# Altium schematic symbol library MAX14871_Project.SchLib: 38 symbols (part 1 of 2)
Pins are listed as number, name and electrical type; pins without a type are passive.

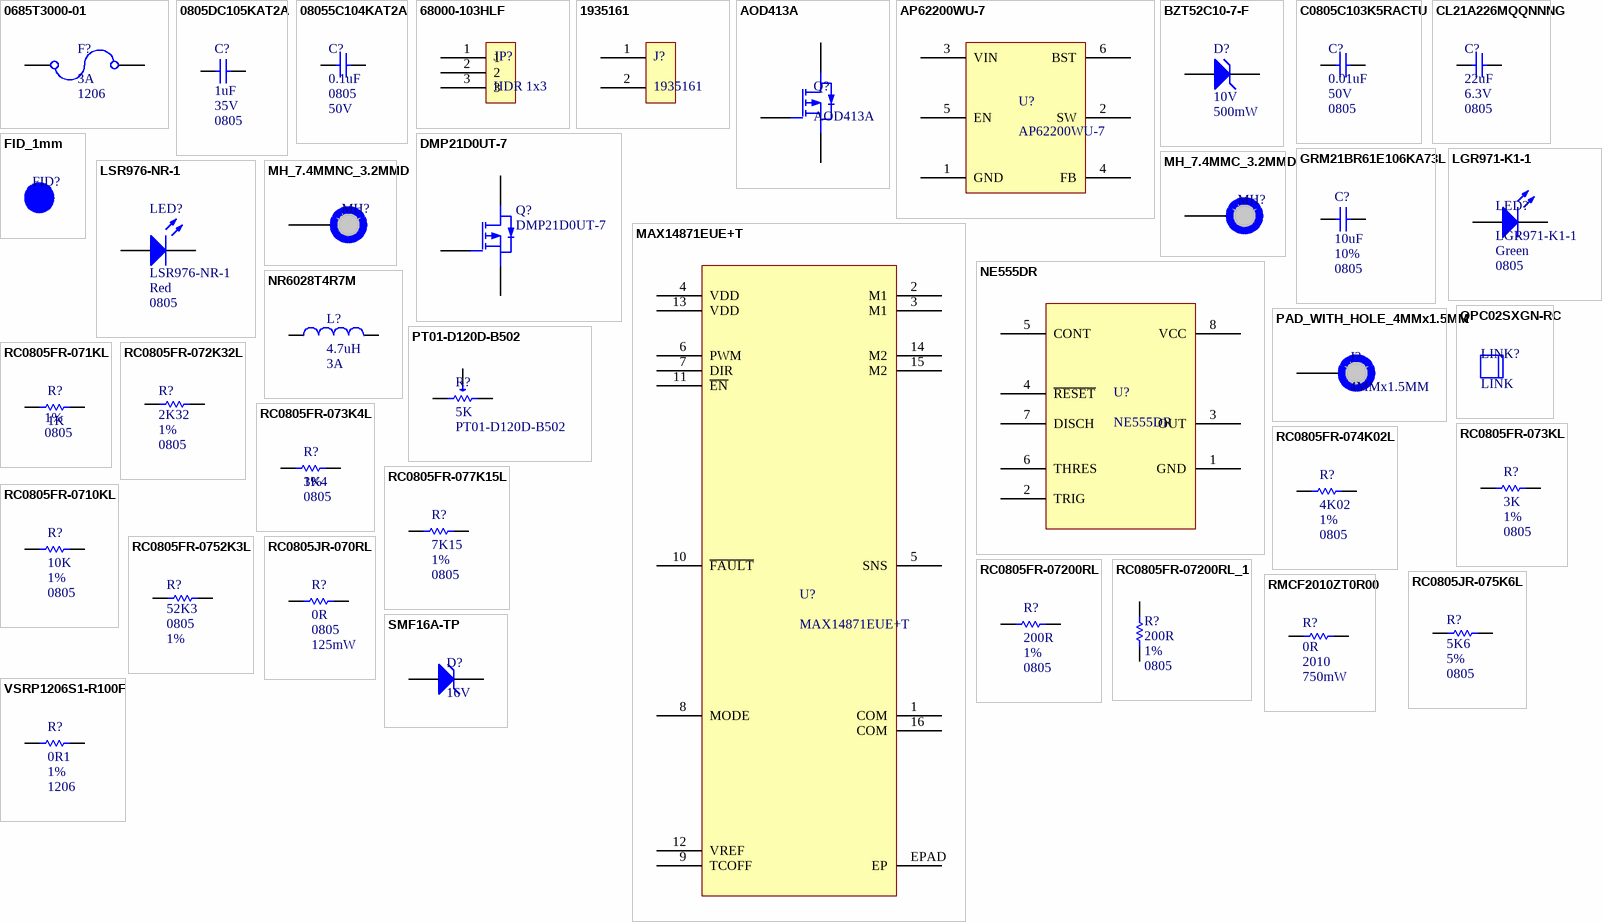
[diagram p0: symbols 0685T3000-01 to VSRP1206S1-R100F]

## 0685T3000-01
designator F?, comment 3A  Case/Package: 1206
Fuse Chip 3A 63V Slow Blow 2-Pin T/R; Manufacturer: Bel; Manufacturer Part Number: 0685T3000-01; Fuse Type: Board Mount (Cartridge Style Excluded); DC Cold Resistance: 54mR; Approvals: CE,cURus; Supplier 1: Digi-Key; RoHS: Yes; Category: Fuses; Stock 1: 409603; Pricing 1: 1=0.30000, 5=0.29600, 10=0.28200, 50=0.25180, 100=0.23450, 250=0.20848, 500=0.17372, 1000=0.16503 (USD); Mount: Surface Mount; Case Code (Imperial): 1206; Case Code (Metric): 3216; Min Operating Temperature: -55°C; Max Operating Temperature: 125°C; Packaging: Tape and Reel; Current Rating: 3A; Voltage Rating (AC): 63V; Voltage Rating (DC): 63V; RoHS Compliant: Yes; ComponentLink1URL: https://belfuse.com/resources/datasheets/circuitprotection/ds-cp-c1t-series.pdf?src-supplier=Digi-Key; ComponentLink1Description: https://belfuse.com/resources/datasheets/circuitprotection/ds-cp-c1t-series.pdf?src-supplier=Digi-Key; Supplier Part Number 1: 507-1896-1-ND
footprint FUSE1206
pins: 1, 2

## 0805DC105KAT2A
designator C?, comment 1uF  Rating: 35V  Case/Package: 0805
Cap Cer 1UF 35V X7R 0805; Manufacturer: Kyocera AVX; Manufacturer Part Number: 0805DC105KAT2A; Supplier 1: Digi-Key; RoHS: Yes; Category: Ceramic Capacitors; Stock 1: 25687; Pricing 1: 1=0.22000, 10=0.15100, 50=0.09040, 100=0.07640, 500=0.05226, 1000=0.04623 (USD); Packaging: Tape and Reel; ComponentLink1URL: http://www.mouser.com/ds/2/40/X7RDielectric-777024.pdf?src-supplier=Mouser; ComponentLink1Description: http://www.mouser.com/ds/2/40/X7RDielectric-777024.pdf?src-supplier=Mouser; Supplier Part Number 1: 478-0805DC105KAT2ACT-ND
footprint C0805
pins: 1, 2

## 08055C104KAT2A
designator C?, comment 0.1uF  Case Code (Imperial): 0805  Voltage Rating (DC): 50V
CAP CER 0.1UF X7R 50V 0805  +/-10%; 50WVDC; SMD; 2.5% Df; 0.037IN. ,; Manufacturer: Kyocera AVX; Manufacturer Part Number: 08055C104KAT2A; Dielectric Material: Ceramic; Capacitance: 100nF; Tolerance: 10%; Insulation Resistance: 100GR; Supplier 1: Digi-Key; RoHS: Yes; Category: Ceramic Capacitors; Stock 1: 12454485; Pricing 1: 1=0.10000, 10=0.06700, 50=0.03640, 100=0.02970, 500=0.02120, 1000=0.01666 (USD); Mount: Surface Mount,PCB; Case/Package: 0805; Number of Pins: 2; Case Code (Metric): 2012; Weight: 0.001411oz; Min Operating Temperature: -55°C; Max Operating Temperature: 125°C; Dielectric: X7R; Packaging: Cut Tape; Voltage Rating: 50V; Package Quantity: 4000; Termination: Standard; Voltage: 50V; Series: MLCC X7R; Dissipation Factor: 2.5%; Length: 2mm; Width: 1.2mm; Height: 0.5mm; Depth: 1.25mm; Thickness: 0.037inch; Radiation Hardening: No; Reach SVHC Compliant: Yes; Lead Free: Lead Free; RoHS Compliant: Yes; ComponentLink1URL: https://datasheet.ciiva.com/19475/2009691-19475858.pdf?src-supplier=Jameco; ComponentLink1Description: https://datasheet.ciiva.com/19475/2009691-19475858.pdf?src-supplier=Jameco; ComponentLink2URL: https://datasheet.ciiva.com/11786/0900766b802d4698-11786116.pdf?src-supplier=RSComponents; ComponentLink2Description: https://datasheet.ciiva.com/11786/0900766b802d4698-11786116.pdf?src-supplier=RSComponents; ComponentLink3URL: https://datasheet.ciiva.com/2988/cx7r-2988014.pdf?src-supplier=Avnet; ComponentLink3Description: https://datasheet.ciiva.com/2988/cx7r-2988014.pdf?src-supplier=Avnet; ComponentLink4URL: https://datasheet.ciiva.com/16199/cx7r-16199014.pdf?src-supplier=Future+Electronics; ComponentLink4Description: https://datasheet.ciiva.com/16199/cx7r-16199014.pdf?src-supplier=Future+Electronics; ComponentLink5URL: https://datasheet.ciiva.com/11504/cx7r-11504044.pdf?src-supplier=Avnet; ComponentLink5Description: https://datasheet.ciiva.com/11504/cx7r-11504044.pdf?src-supplier=Avnet; ComponentLink6URL: https://datasheet.ciiva.com/150/cx7r-150258.pdf?src-supplier=Digi-Key; ComponentLink6Description: https://datasheet.ciiva.com/150/cx7r-150258.pdf?src-supplier=Digi-Key; ComponentLink7URL: https://datasheet.ciiva.com/150/cx7r-150257.pdf?src-supplier=Digi-Key; ComponentLink7Description: https://datasheet.ciiva.com/150/cx7r-150257.pdf?src-supplier=Digi-Key; ComponentLink8URL: https://datasheet.ciiva.com/150/cx7r-150259.pdf?src-supplier=Digi-Key; ComponentLink8Description: https://datasheet.ciiva.com/150/cx7r-150259.pdf?src-supplier=Digi-Key; ComponentLink9URL: https://datasheet.ciiva.com/7812/cx7r-7812079.pdf?src-supplier=Element14; ComponentLink9Description: https://datasheet.ciiva.com/7812/cx7r-7812079.pdf?src-supplier=Element14; ComponentLink10URL: https://datasheet.ciiva.com/5416/cx7r-5416959.pdf?src-supplier=Mouser; ComponentLink10Description: https://datasheet.ciiva.com/5416/cx7r-5416959.pdf?src-supplier=Mouser; Supplier Part Number 1: 478-1395-1-ND
footprint C0805
pins: 1, 2

## 68000-103HLF
designator JP?, comment HDR 1x3
CONN HEADER VERT 3POS 2.54MM
footprint HDR_1x3_2.54mm
pins: 1, 2, 3

## 1935161
designator J?
Conn PC Terminal Block 2 POS 5mm Solder ST Thru-Hole 17.5A; Manufacturer: Phoenix Contact; Number of Contacts: 2; Max Current Rating: 16A; Max Supply Voltage: 250V; Number of Levels: 1; Current: 18A; Voltage: 300V; Voltage Rating (DC): 320V; Connector Type: Screw; Wire/Cable Gauge: 26AWG; Wire Gauge (Min): 12AWG; Approvals: UL; Supplier 1: Digi-Key; Manufacturer Part Number: 1935161; RoHS: Yes; Category: Terminal Blocks; Stock 1: 238571; Pricing 1: 1=0.54000, 10=0.47200, 50=0.45100, 100=0.43870, 250=0.41000, 500=0.37720, 1000=0.36550 (USD); Mount: Through Hole; Number of Pins: 2; Contact Material: Copper,Tin; Housing Material: Polyamide; Color: Green; Weight: 0.067021oz; Material: Nylon; Housing Color: Green; Insulation Material: Nylon; Current Rating: 17.5A; Number of Rows: 1; Termination: Solder; Orientation: Straight; Voltage Rating: 250V; Package Quantity: 250; Packaging: Bulk; Number of Poles: 2; Number of Positions: 2; Number of Positions Per Level: 2; Number of Circuits: 2; Series: COMBICON PT; Number of Ways: 2; Length: 9mm; Width: 14.9mm; Height: 11.3mm; Wire Gauge (Max): 26AWG; Depth: 9mm; Pitch: 5mm; Radiation Hardening: No; RoHS Compliant: Yes; Lead Free: Lead Free; Flammability Rating: UL94 V-0; ComponentLink1URL: https://datasheet.ciiva.com/16047/1935161-16047247.pdf?src-supplier=Onlinecomponents.com; ComponentLink1Description: https://datasheet.ciiva.com/16047/1935161-16047247.pdf?src-supplier=Onlinecomponents.com; ComponentLink2URL: https://datasheet.ciiva.com/15169/getdatasheetpartid-177903-15169663.pdf?src-supplier=Verical; ComponentLink2Description: https://datasheet.ciiva.com/15169/getdatasheetpartid-177903-15169663.pdf?src-supplier=Verical; ComponentLink3URL: https://datasheet.ciiva.com/824/combiconcompact5-0mmseries-824222.pdf?src-supplier=Digi-Key; ComponentLink3Description: https://datasheet.ciiva.com/824/combiconcompact5-0mmseries-824222.pdf?src-supplier=Digi-Key; Supplier Part Number 1: 277-1667-ND
footprint 1935161
pins: 1, 2

## AOD413A
designator Q?
MOSFET P-CH 40V 12A TO252; Manufacturer: Alpha & Omega Semiconductor; Rds On Max: 44mR; Input Capacitance: 1.125nF; Max Power Dissipation: 50W; Number of Elements: 1; Gate to Source Voltage (Vgs): 20V; Supplier 1: Digi-Key; Manufacturer Part Number: AOD413A; RoHS: Yes; Category: MOSFETs; Stock 1: 406428; Pricing 1: 1=0.61000, 10=0.54100, 100=0.41440, 500=0.32760, 1000=0.26208 (USD); Mount: Surface Mount; Number of Pins: 3; Min Operating Temperature: -55°C; Max Operating Temperature: 175°C; Package Quantity: 2500; Packaging: Tape and Reel; Drain to Source Voltage (Vdss): 40V; Lead Free: Lead Free; RoHS Compliant: Yes; ComponentLink1URL: https://datasheet.ciiva.com/6367/aod413a-6367556.pdf?src-supplier=Digi-Key; ComponentLink1Description: https://datasheet.ciiva.com/6367/aod413a-6367556.pdf?src-supplier=Digi-Key; ComponentLink2URL: https://datasheet.ciiva.com/6367/aod413a-6367558.pdf?src-supplier=Digi-Key; ComponentLink2Description: https://datasheet.ciiva.com/6367/aod413a-6367558.pdf?src-supplier=Digi-Key; ComponentLink3URL: https://datasheet.ciiva.com/6367/aod413a-6367560.pdf?src-supplier=Digi-Key; ComponentLink3Description: https://datasheet.ciiva.com/6367/aod413a-6367560.pdf?src-supplier=Digi-Key; Supplier Part Number 1: 785-1218-1-ND; Power Dissipation: 50W; Continuous Drain Current (ID): 12A; Case/Package: TO-252-3
footprint TO252
pins: D, G, S

## AP62200WU-7
designator U?
4.2V to 18V Input 2A Low IQ Synchronous Buck Converter 6-Pin TSOT-26 T/R; Manufacturer: Diodes; Supplier 1: Digi-Key; RoHS: Yes; Category: Voltage Regulators - Switching; Stock 1: 508009; Pricing 1: 1=0.43000, 10=0.37100, 25=0.34600, 100=0.27690, 250=0.25712, 500=0.21758, 1000=0.16813 (USD); RoHS Compliant: Yes; Supplier Part Number 1: 31-AP62200WU-7CT-ND; Manufacturer Part Number: AP62200WU-7
footprint TSOT26
pins: 1 GND, 2 SW, 3 VIN, 4 FB, 5 EN, 6 BST

## BZT52C10-7-F
designator D?, comment 10V  Max Power Dissipation: 500mW
Vz=10V 9.4V~10.6V Izt=5mA; Manufacturer: Diodes; Manufacturer Part Number: BZT52C10-7-F; Max Reverse Leakage Current: 200nA; Element Configuration: Single; Output Current: 50mA; Tolerance: 6%; Forward Voltage: 900mV; Impedance: 20R; Zener Current: 5mA; ESD Protection: No; Supplier 1: Digi-Key; RoHS: Yes; Category: Zener Diodes; Stock 1: 627176; Pricing 1: 1=0.22000, 10=0.19900, 100=0.10830, 500=0.06662, 1000=0.04542 (USD); Mount: Surface Mount; Number of Pins: 2; Weight: 0.000353oz; Contact Plating: Tin,Matte; Min Operating Temperature: -65°C; Max Operating Temperature: 150°C; Packaging: Tape and Reel; Zener Voltage: 10V; Package Quantity: 3000; Series: -; Voltage Tolerance: 6%; Max Reverse Current: 200nA; Test Current: 5mA; Power Dissipation: 500mW; Working Voltage: 10V; Termination: SMD/SMT; Power Rating: 500mW; Voltage Rating (DC): 10V; Length: 2.85mm; Width: 1.7mm; Height: 1.35mm; Radiation Hardening: No; Lead Free: Lead Free; RoHS Compliant: Yes; ComponentLink1URL: https://datasheet.ciiva.com/15142/getdatasheetpartid-89980-15142547.pdf?src-supplier=Verical; ComponentLink1Description: https://datasheet.ciiva.com/15142/getdatasheetpartid-89980-15142547.pdf?src-supplier=Verical; ComponentLink2URL: https://datasheet.ciiva.com/27052/1539497-27052374.pdf?src-supplier=Jameco; ComponentLink2Description: https://datasheet.ciiva.com/27052/1539497-27052374.pdf?src-supplier=Jameco; Supplier Part Number 1: BZT52C10-FDICT-ND
footprint SOD123_Zener
pins: A, K

## C0805C103K5RACTU
designator C?, comment 0.01uF  Voltage Rating: 50V  Case/Package: 0805
CAP CER 0.01uF 50V X7R 10% SMD 0805 125C Plastic T/R; Manufacturer: KEMET; Manufacturer Part Number: C0805C103K5RACTU; Capacitance: 10nF; Supplier 1: Digi-Key; RoHS: Yes; Category: Ceramic Capacitors; Stock 1: 3238718; Pricing 1: 1=0.11000, 10=0.07500, 50=0.04260, 100=0.03530, 500=0.02476, 1000=0.02050 (USD); Mount: Surface Mount; Case Code (Imperial): 0805; Case Code (Metric): 2012; Contact Plating: Tin,Matte; Min Operating Temperature: -55°C; Max Operating Temperature: 125°C; Tolerance: 10%; Dielectric: X7R; Packaging: Tape and Reel; Voltage Rating (DC): 50V; Package Quantity: 4000; Termination: SMD/SMT; Voltage: 50V; Construction: Flat; Length: 2mm; Width: 1.2mm; Height: 0.78mm; Depth: 1.25mm; Lead Pitch: 0.75mm; Radiation Hardening: No; ComponentLink1URL: http://www.farnell.com/datasheets/2740682.pdf?src-supplier=Farnell; ComponentLink1Description: http://www.farnell.com/datasheets/2740682.pdf?src-supplier=Farnell; ComponentLink2URL: http://www.onlinecomponents.com/productFiles/mf-KEM/kem_c1002_x7r_smd.pdf?src-supplier=Onlinecomponents.com; ComponentLink2Description: http://www.onlinecomponents.com/productFiles/mf-KEM/kem_c1002_x7r_smd.pdf?src-supplier=Onlinecomponents.com; ComponentLink3URL: https://www.verical.com/server-webapp/html/getDatasheet?partID=293414&src-supplier=Verical; ComponentLink3Description: https://www.verical.com/server-webapp/html/getDatasheet?partID=293414&src-supplier=Verical; ComponentLink4URL: http://www.farnell.com/datasheets/2740682.pdf?src-supplier=Newark; ComponentLink4Description: http://www.farnell.com/datasheets/2740682.pdf?src-supplier=Newark; ComponentLink5URL: http://www.farnell.com/datasheets/2740682.pdf?src-supplier=Element14; ComponentLink5Description: http://www.farnell.com/datasheets/2740682.pdf?src-supplier=Element14; ComponentLink6URL: https://api.kemet.com/component-edge/download/datasheet/C0805C103K5RACTU.pdf?src-supplier=Digi-Key; ComponentLink6Description: https://api.kemet.com/component-edge/download/datasheet/C0805C103K5RACTU.pdf?src-supplier=Digi-Key; ComponentLink7URL: http://www.kemet.com/Lists/ProductCatalog/Attachments/53/KEM_C1002_X7R_SMD.pdf?src-supplier=Avnet; ComponentLink7Description: http://www.kemet.com/Lists/ProductCatalog/Attachments/53/KEM_C1002_X7R_SMD.pdf?src-supplier=Avnet; Supplier Part Number 1: 399-C0805C103K5RAC7800CT-ND
footprint C0805
pins: 1, 2

## CL21A226MQQNNNG
designator C?, comment 22uF  Voltage Rating: 6.3V  Case/Package: 0805
CAP CER 6.3V X5R 20% SMD 0805 85°C Embossed T/R; Manufacturer: Samsung; Manufacturer Part Number: CL21A226MQQNNNG; Material: Ceramic; Supplier 1: Digi-Key; RoHS: Yes; Category: Ceramic Capacitors; Stock 1: 1010294; Pricing 1: 1=0.13000, 10=0.09300, 50=0.05300, 100=0.04380, 500=0.03074, 1000=0.02545 (USD); Mount: Surface Mount; Case Code (Metric): 2012; Min Operating Temperature: -55°C; Max Operating Temperature: 85°C; Tolerance: 20%; Packaging: Tape and Reel; Package Quantity: 3000; Dielectric: X5R; Voltage: 6.3V; Series: CL; Construction: Flat; Length: 2mm; Width: 0.049inch; Height: 1.25mm; Thickness: 0.055inch; Depth: 1.25mm; Radiation Hardening: No; RoHS Compliant: Yes; ComponentLink1URL: https://datasheet.ciiva.com/25728/cl21a226mqqnnng-25728680.pdf?src-supplier=Digi-Key; ComponentLink1Description: https://datasheet.ciiva.com/25728/cl21a226mqqnnng-25728680.pdf?src-supplier=Digi-Key; ComponentLink2URL: https://datasheet.ciiva.com/29199/454647-da-01-en-vs-kondensator-0805-29199620.pdf?src-supplier=Conrad; ComponentLink2Description: https://datasheet.ciiva.com/29199/454647-da-01-en-vs-kondensator-0805-29199620.pdf?src-supplier=Conrad; Supplier Part Number 1: 1276-6460-1-ND; Capacitance: 22uF; Case Code (Imperial): 0805
footprint C0805
pins: 1, 2

## DMP21D0UT-7
designator Q?
MOSFET P-CH 20V 0.59A SOT523; Manufacturer: Diodes; Input Capacitance: 80pF; Max Power Dissipation: 240mW; Rds On Max: 495mR; Rise Time: 8ns; Continuous Drain Current (ID): 650mA; Turn-Off Delay Time: 31.7ns; Turn-On Delay Time: 7.1ns; Fall Time: 18.5ns; Element Configuration: Single; Gate to Source Voltage (Vgs): 8V; Number of Channels: 1; Polarity: P-CHANNEL; Supplier 1: Digi-Key; Manufacturer Part Number: DMP21D0UT-7; RoHS: Yes; Category: MOSFETs; Stock 1: 2029106; Pricing 1: 1=0.41000, 10=0.30900, 100=0.19230, 500=0.13156, 1000=0.10120 (USD); Mount: Surface Mount; Case/Package: SOT-523; Number of Pins: 3; Weight: 7.1E-05oz; Min Operating Temperature: -55°C; Max Operating Temperature: 150°C; Packaging: Tape and Reel; Package Quantity: 3000; Drain to Source Voltage (Vdss): 20V; Drain to Source Resistance: 495mR; Series: -; Length: 1.7mm; Width: 0.85mm; Height: 0.8mm; Radiation Hardening: No; Reach SVHC Compliant: Yes; Lead Free: Lead Free; RoHS Compliant: Yes; ComponentLink1URL: https://datasheet.ciiva.com/13055/dmp21d0ut-13055589.pdf?src-supplier=Mouser; ComponentLink1Description: https://datasheet.ciiva.com/13055/dmp21d0ut-13055589.pdf?src-supplier=Mouser; ComponentLink2URL: https://datasheet.ciiva.com/30480/0900766b8115c368-30480035.pdf?src-supplier=RSComponents; ComponentLink2Description: https://datasheet.ciiva.com/30480/0900766b8115c368-30480035.pdf?src-supplier=RSComponents; ComponentLink3URL: https://datasheet.ciiva.com/30023/dmp21d0ut-30023816.pdf?src-supplier=Avnet; ComponentLink3Description: https://datasheet.ciiva.com/30023/dmp21d0ut-30023816.pdf?src-supplier=Avnet; ComponentLink4URL: https://datasheet.ciiva.com/934/dmp21d0ut-934695.pdf?src-supplier=Digi-Key; ComponentLink4Description: https://datasheet.ciiva.com/934/dmp21d0ut-934695.pdf?src-supplier=Digi-Key; ComponentLink5URL: https://datasheet.ciiva.com/934/dmp21d0ut-934696.pdf?src-supplier=Digi-Key; ComponentLink5Description: https://datasheet.ciiva.com/934/dmp21d0ut-934696.pdf?src-supplier=Digi-Key; ComponentLink6URL: https://datasheet.ciiva.com/934/dmp21d0ut-934694.pdf?src-supplier=Digi-Key; ComponentLink6Description: https://datasheet.ciiva.com/934/dmp21d0ut-934694.pdf?src-supplier=Digi-Key; Supplier Part Number 1: DMP21D0UT-7DICT-ND
footprint SOT523
pins: D, G, S

## FID_1mm
designator FID?, comment FID_1MM  (value not drawn)  (no BOM)
Fiducial 40mil diameter, 120 Mask
footprint FID_40X120D

## GRM21BR61E106KA73L
designator C?, comment 10uF  Tolerance: 10%  Case/Package: 0805
CAP CER 10UF 25V X5R 0805; Manufacturer: Murata; Manufacturer Part Number: GRM21BR61E106KA73L; Material: Ceramic; Supplier 1: Digi-Key; RoHS: Yes; Category: Ceramic Capacitors; Stock 1: 4346659; Pricing 1: 1=0.25000, 10=0.17500, 50=0.11640, 100=0.09890, 500=0.06984, 1000=0.06111 (USD); Mount: Surface Mount; Case Code (Metric): 2012; Case Code (Imperial): 0805; Min Operating Temperature: -55°C; Max Operating Temperature: 85°C; Capacitance: 10uF; Dielectric: X5R; Package Quantity: 1; Voltage Rating: 25V; Packaging: Tape and Reel; Voltage Rating (DC): 25V; Termination: SMD/SMT; Voltage: 25V; Series: GRM; Construction: Flat; Length: 2mm; Width: 0.049inch; Height: 1.25mm; Thickness: 0.053inch; Depth: 1.25mm; Radiation Hardening: No; Reach SVHC Compliant: Yes; Lead Free: Lead Free; RoHS Compliant: Yes; ComponentLink1URL: https://datasheet.ciiva.com/22774/1747469-22774396.pdf?src-supplier=Farnell; ComponentLink1Description: https://datasheet.ciiva.com/22774/1747469-22774396.pdf?src-supplier=Farnell; ComponentLink2URL: https://datasheet.ciiva.com/28584/626718-28584288.pdf?src-supplier=Element14; ComponentLink2Description: https://datasheet.ciiva.com/28584/626718-28584288.pdf?src-supplier=Element14; ComponentLink3URL: https://datasheet.ciiva.com/5424/product-5424327.pdf?src-supplier=Mouser; ComponentLink3Description: https://datasheet.ciiva.com/5424/product-5424327.pdf?src-supplier=Mouser; ComponentLink4URL: https://datasheet.ciiva.com/16440/grm21br61e106ka73l-16440627.pdf?src-supplier=Future+Electronics; ComponentLink4Description: https://datasheet.ciiva.com/16440/grm21br61e106ka73l-16440627.pdf?src-supplier=Future+Electronics; ComponentLink5URL: https://datasheet.ciiva.com/29199/454623-da-01-en-vs-kondensator-0805-29199615.pdf?src-supplier=Conrad; ComponentLink5Description: https://datasheet.ciiva.com/29199/454623-da-01-en-vs-kondensator-0805-29199615.pdf?src-supplier=Conrad; ComponentLink6URL: https://datasheet.ciiva.com/14116/grmseries-highdielectrictype-eng-14116376.pdf?src-supplier=Distrelec; ComponentLink6Description: https://datasheet.ciiva.com/14116/grmseries-highdielectrictype-eng-14116376.pdf?src-supplier=Distrelec; ComponentLink7URL: https://datasheet.ciiva.com/7719/1747469-7719093.pdf?src-supplier=Element14; ComponentLink7Description: https://datasheet.ciiva.com/7719/1747469-7719093.pdf?src-supplier=Element14; ComponentLink8URL: https://datasheet.ciiva.com/28584/626718-28584279.pdf?src-supplier=Element14; ComponentLink8Description: https://datasheet.ciiva.com/28584/626718-28584279.pdf?src-supplier=Element14; ComponentLink9URL: https://datasheet.ciiva.com/139/partnumbering-e-01-139183.pdf?src-supplier=Digi-Key; ComponentLink9Description: https://datasheet.ciiva.com/139/partnumbering-e-01-139183.pdf?src-supplier=Digi-Key; ComponentLink10URL: https://datasheet.ciiva.com/139/partnumbering-e-01-139182.pdf?src-supplier=Digi-Key; ComponentLink10Description: https://datasheet.ciiva.com/139/partnumbering-e-01-139182.pdf?src-supplier=Digi-Key; ComponentLink11URL: https://datasheet.ciiva.com/139/partnumbering-e-01-139184.pdf?src-supplier=Digi-Key; ComponentLink11Description: https://datasheet.ciiva.com/139/partnumbering-e-01-139184.pdf?src-supplier=Digi-Key; Supplier Part Number 1: 490-5523-1-ND
footprint C0805
pins: 1, 2

## LGR971-K1-1
designator LED?  Illumination Color: Green  Case/Package: 0805
LED SMT GREEN 0805; Supplier Part Number 1: 475-1410-1-ND
footprint LED0805 - Green
pins: A, K

## LSR976-NR-1
designator LED?  Illumination Color: Red  Case/Package: 0805
LED SMT RED 0805; Manufacturer: Osram Opto; Lens Color: White; Forward Current: 25mA; Forward Voltage: 2.5V; Luminous Intensity: 180mcd; Viewing Angle: 160°; Lens Style: Flat,Diffused,Colorless,Rectangular; Test Current: 20mA; Dominant Wavelength: 633nm; Luminous Flux: 0.47lm; Number of Elements: 1; Power Dissipation: 65mW; Reverse Voltage: 12V; Lens Transparency: Diffused; Lens Size: 1.25mm; Supplier 1: Mouser; Manufacturer Part Number: LSR976-NR-1; RoHS: Yes; Category: Uncategorized; Stock 1: 1195318; Pricing 1: 1=0.30000, 10=0.16400, 50=0.16400, 100=0.07700, 500=0.07100, 1000=0.05400, 5000=0.04700, 10000=0.04300, 16000=0.03700 (USD); Mount: Surface Mount; Number of Pins: 2; Color: Red; Case Code (Metric): 2012; Case Code (Imperial): 0805; Min Operating Temperature: -30°C; Max Operating Temperature: 85°C; Packaging: Tape and Reel; Package Quantity: 16000; Number of LEDs: 1; Series: CHIPLED 0805; Length: 2.1mm; Width: 1.25mm; Height: 0.9mm; Depth: 1.35mm; Radiation Hardening: No; RoHS Compliant: Yes; ComponentLink1URL: https://datasheet.ciiva.com/4688/o-ls-ly-r976-24152-4688435.pdf?src-supplier=Mouser; ComponentLink1Description: https://datasheet.ciiva.com/4688/o-ls-ly-r976-24152-4688435.pdf?src-supplier=Mouser; ComponentLink2URL: https://datasheet.ciiva.com/26920/getdatasheetpartid-568367-26920831.pdf?src-supplier=Verical; ComponentLink2Description: https://datasheet.ciiva.com/26920/getdatasheetpartid-568367-26920831.pdf?src-supplier=Verical; ComponentLink3URL: https://datasheet.ciiva.com/2112/00078896-0-2112782.pdf?src-supplier=Digi-Key; ComponentLink3Description: https://datasheet.ciiva.com/2112/00078896-0-2112782.pdf?src-supplier=Digi-Key; ComponentLink4URL: https://datasheet.ciiva.com/2112/00078896-0-2112781.pdf?src-supplier=Digi-Key; ComponentLink4Description: https://datasheet.ciiva.com/2112/00078896-0-2112781.pdf?src-supplier=Digi-Key; ComponentLink5URL: https://datasheet.ciiva.com/2112/00078896-0-2112783.pdf?src-supplier=Digi-Key; ComponentLink5Description: https://datasheet.ciiva.com/2112/00078896-0-2112783.pdf?src-supplier=Digi-Key; Supplier Part Number 1: 720-LSR976-NR-1
footprint LED0805
pins: A, K

## MAX14871EUE+T
designator U?
IC Motor Driver 4.5V-36V 16TSSOP; Manufacturer: Analog Devices; Supplier 1: Digi-Key; Manufacturer Part Number: MAX14871EUE+T; RoHS: No; Category: Uncategorized; Stock 1: 2369; Pricing 1: 1=5.19000, 10=4.66500, 25=4.41000, 100=3.82200, 250=3.62600, 500=3.25360, 1000=2.94000 (USD); Supplier Part Number 1: MAX14871EUE+CT-ND
footprint 21-0108_U16E+3_MXM-M
pins: 1 COM, 2 M1, 3 M1, 4 VDD, 5 SNS, 6 PWM, 7 DIR, 8 MODE, 9 TCOFF, 10 ~{FAULT}, 11 ~{EN}, 12 VREF, 13 VDD, 14 M2, 15 M2, 16 COM, EPAD EP

## MH_7.4MMC_3.2MMD
designator MH?  (value not drawn)  (no BOM)
Mounting Hole 7.4mm Diameter, 3.2mm Drill
footprint MH_7.4MMC_3.2MMD
pins: 1

## MH_7.4MMNC_3.2MMD
designator MH?  (value not drawn)  (no BOM)
Hole 7.4MM Diameter (Non Copper), 3.2mm Drill NPTH
footprint MH_7.4MMD_3.2MMD_NON_COPPER_NPTH
pins: 1

## NE555DR
designator U?
IC OSC SGL TIMER 100KHZ 8-SOIC; Manufacturer: Texas Instruments; Quiescent Current: 15mA; Number of Timers/Counters: 1; High Level Output Current: -200mA; Low Level Output Current: 200mA; Max Supply Voltage: 16V; Min Supply Voltage: 4.5V; Operating Supply Current: 10mA; Supplier 1: Digi-Key; Manufacturer Part Number: NE555DR; RoHS: Yes; Category: Timers and Oscillators; Stock 1: 369283; Pricing 1: 1=0.46000, 10=0.34300, 25=0.30880, 100=0.21350, 250=0.17976, 500=0.14606, 1000=0.11236 (USD); Mount: Surface Mount; Case/Package: SOIC; Number of Pins: 8; Weight: 0.002561oz; Contact Plating: Gold; Min Operating Temperature: 0°C; Max Operating Temperature: 70°C; Packaging: Tape and Reel; Frequency: 100kHz; Package Quantity: 1; Series: -; Length: 4.9mm; Width: 3.91mm; Height: 1.58mm; Radiation Hardening: No; Lead Free: Lead Free; Reach SVHC Compliant: Yes; RoHS Compliant: Yes; ComponentLink1URL: https://datasheet.ciiva.com/46395/1874740-46395978.pdf?src-supplier=Element14; ComponentLink1Description: https://datasheet.ciiva.com/46395/1874740-46395978.pdf?src-supplier=Element14; ComponentLink2URL: https://datasheet.ciiva.com/1233/ne555-1233132.pdf?src-supplier=Digi-Key; ComponentLink2Description: https://datasheet.ciiva.com/1233/ne555-1233132.pdf?src-supplier=Digi-Key; ComponentLink3URL: https://datasheet.ciiva.com/1233/ne555-1233131.pdf?src-supplier=Digi-Key; ComponentLink3Description: https://datasheet.ciiva.com/1233/ne555-1233131.pdf?src-supplier=Digi-Key; ComponentLink4URL: https://datasheet.ciiva.com/1233/ne555-1233133.pdf?src-supplier=Digi-Key; ComponentLink4Description: https://datasheet.ciiva.com/1233/ne555-1233133.pdf?src-supplier=Digi-Key; ComponentLink5URL: https://datasheet.ciiva.com/1139/1874740-1139901.pdf?src-supplier=Element14; ComponentLink5Description: https://datasheet.ciiva.com/1139/1874740-1139901.pdf?src-supplier=Element14; Supplier Part Number 1: 296-6501-1-ND
footprint 8-SOIC
pins: 1 GND, 2 TRIG, 3 OUT, 4 ~{RESET}, 5 CONT, 6 THRES, 7 DISCH, 8 VCC

## NR6028T4R7M
designator L?, comment 4.7uH  Max DC Current: 3A
Inductor Power Shielded Wirewound 4.7uH 20% 100KHz Ferrite 3A 0.0403Ohm DCR 2424 T/R; Manufacturer: Taiyo Yuden; Manufacturer Part Number: NR6028T4R7M; Self Resonant Frequency: 39MHz; Saturation Current: 2.7A; DC Resistance (DCR): 40.3mR; Supplier 1: Digi-Key; RoHS: Yes; Category: Fixed Inductors; Stock 1: 261825; Pricing 1: 1=0.36000, 10=0.31900, 25=0.27920, 50=0.23940, 100=0.21940, 250=0.19948, 500=0.18750, 1000=0.14362 (USD); Mount: Surface Mount; Case/Package: 2424; Number of Pins: 2; Core Material: Ferrite; Min Operating Temperature: -25°C; Max Operating Temperature: 120°C; Packaging: Tape and Reel; Tolerance: 20%; Inductance Tolerance: 20%; Package Quantity: 2000; Current Rating: 3A; Shielding: Shielded; Resistor Type: Wirewound; Inductance: 4.7uH; Test Frequency: 100kHz; Termination: SMD/SMT; RMS Current (Irms): 3A; Series: NR; Length: 0.236inch; Width: 0.236inch; Height: 2.8mm; Height - Seated (Max): 0.11inch; Depth: 6.2mm; Radiation Hardening: No; Halogen Free: Halogen Free; RoHS Compliant: Yes; Lead Free: Lead Free; ComponentLink1URL: https://datasheet.ciiva.com/7291/nr6028t4r7m-ss-7291638.pdf?src-supplier=Newark; ComponentLink1Description: https://datasheet.ciiva.com/7291/nr6028t4r7m-ss-7291638.pdf?src-supplier=Newark; ComponentLink2URL: https://datasheet.ciiva.com/8502/nr6028t4r7m-ss-8502688.pdf?src-supplier=Avnet; ComponentLink2Description: https://datasheet.ciiva.com/8502/nr6028t4r7m-ss-8502688.pdf?src-supplier=Avnet; ComponentLink3URL: https://datasheet.ciiva.com/15988/314nr6028t4r7m-15988117.pdf?src-supplier=Onlinecomponents.com; ComponentLink3Description: https://datasheet.ciiva.com/15988/314nr6028t4r7m-15988117.pdf?src-supplier=Onlinecomponents.com; ComponentLink4URL: https://datasheet.ciiva.com/1043/wound04-e-1043082.pdf?src-supplier=Digi-Key; ComponentLink4Description: https://datasheet.ciiva.com/1043/wound04-e-1043082.pdf?src-supplier=Digi-Key; ComponentLink5URL: https://datasheet.ciiva.com/1043/wound04-e-1043081.pdf?src-supplier=Digi-Key; ComponentLink5Description: https://datasheet.ciiva.com/1043/wound04-e-1043081.pdf?src-supplier=Digi-Key; ComponentLink6URL: https://datasheet.ciiva.com/1043/wound04-e-1043083.pdf?src-supplier=Digi-Key; ComponentLink6Description: https://datasheet.ciiva.com/1043/wound04-e-1043083.pdf?src-supplier=Digi-Key; ComponentLink7URL: https://datasheet.ciiva.com/4955/wound04-e-4955707.pdf?src-supplier=Mouser; ComponentLink7Description: https://datasheet.ciiva.com/4955/wound04-e-4955707.pdf?src-supplier=Mouser; Supplier Part Number 1: 587-2100-1-ND
footprint NR6028T4R7M
pins: 1, 2

## PAD_WITH_HOLE_4MMx1.5MM
designator J?, comment 4MMx1.5MM  (no BOM)
PAD WITH A HOLE 4mm x 1.5mm
footprint PAD_WITH_HOLE_4MMx1.5MM
pins: 1

## PT01-D120D-B502
designator R?, comment 5K  Manufacturer Part Number: PT01-D120D-B502
POT 5K OHM Panel Mount/Through Hole, Rotary Potentiometer; Manufacturer: CUI Devices; Supplier 1: DigiKey; Stock 1: 984; Pricing 1: 1=0.79000, 10=0.66600, 25=0.61720, 50=0.58200, 100=0.54700, 250=0.47200, 1000=0.44100, 2500=0.41800 (USD); ComponentLink1URL: https://datasheet.octopart.com/PT01-D120D-B502-CUI-Devices-datasheet-158883457.pdf?src-supplier=CUI+Devices; ComponentLink1Description: https://datasheet.octopart.com/PT01-D120D-B502-CUI-Devices-datasheet-158883457.pdf?src-supplier=CUI+Devices; Supplier Part Number 1: 2223-PT01-D120D-B502-ND
footprint TRIM_PT01-D120D-B502
pins: 1, 2, 3

## QPC02SXGN-RC
designator LINK?, comment LINK  (mechanical)
2 Position 2.54 mm Centerline Single Circuit Open Top Jumper; Manufacturer: Sullins; Manufacturer Part Number: QPC02SXGN-RC; Number of Positions: 2; Pitch: 0.1inch; Supplier 1: Digi-Key; RoHS: Yes; Category: Connectors; Stock 1: 1015861; Pricing 1: 1=0.10000, 10=0.05000, 25=0.04080, 50=0.03780, 100=0.03650, 250=0.03152, 500=0.03024, 2000=0.02520, 4000=0.02394 (USD); Case/Package: 100; Contact Plating: Gold; Package Quantity: 2000; Packaging: Bulk; Height: 0.235inch; RoHS Compliant: Yes; Lead Free: Lead Free; ComponentLink1URL: https://datasheet.ciiva.com/767/284-sxgn-11510-767869.pdf?src-supplier=Digi-Key; ComponentLink1Description: https://datasheet.ciiva.com/767/284-sxgn-11510-767869.pdf?src-supplier=Digi-Key; Supplier Part Number 1: S9337-ND

## RC0805FR-071KL
designator R?, comment 1K  Tolerance: 1%  Case/Package: 0805
RES SMD 1K OHM 1% 1/8W 0805; Manufacturer: Yageo; Manufacturer Part Number: RC0805FR-071KL; Resistance: 1kR; Temperature Coefficient: 100ppm/°C; Voltage Rating (DC): 150V; Power Rating: 125mW; Supplier 1: Digi-Key; RoHS: Yes; Category: Chip SMD Resistors; Stock 1: 9084773; Pricing 1: 1=0.10000, 10=0.03600, 100=0.01480, 1000=0.00666, 2500=0.00578 (USD); Number of Pins: 2; Case Code (Metric): 2012; Size Code: 0805; Min Operating Temperature: -55°C; Max Operating Temperature: 155°C; Resistor Type: Thick Film; Packaging: Tape and Reel; Package Quantity: 1; Voltage Rating: 150V; Number of Terminations: 2; Termination: SMD/SMT; Max Power Dissipation: 125mW; Features: Moisture Resistant; Series: RC; Resistance Tolerance: 1%; Construction: Rectangular; Length: 0.079inch; Width: 0.049inch; Height: 0.024inch; Depth: 1.25mm; Reach SVHC Compliant: Yes; Lead Free: Lead Free; RoHS Compliant: Yes; Military Standard: Not; ComponentLink1URL: https://datasheet.ciiva.com/7941/1686128-7941719.pdf?src-supplier=Element14; ComponentLink1Description: https://datasheet.ciiva.com/7941/1686128-7941719.pdf?src-supplier=Element14; ComponentLink2URL: https://datasheet.ciiva.com/46385/444164-46385020.pdf?src-supplier=Element14; ComponentLink2Description: https://datasheet.ciiva.com/46385/444164-46385020.pdf?src-supplier=Element14; ComponentLink3URL: https://datasheet.ciiva.com/2456/pyu-r-int-thick-7-2456976.pdf?src-supplier=Digi-Key; ComponentLink3Description: https://datasheet.ciiva.com/2456/pyu-r-int-thick-7-2456976.pdf?src-supplier=Digi-Key; ComponentLink4URL: https://datasheet.ciiva.com/2456/pyu-r-int-thick-7-2456977.pdf?src-supplier=Digi-Key; ComponentLink4Description: https://datasheet.ciiva.com/2456/pyu-r-int-thick-7-2456977.pdf?src-supplier=Digi-Key; ComponentLink5URL: https://datasheet.ciiva.com/2456/pyu-r-int-thick-7-2456975.pdf?src-supplier=Digi-Key; ComponentLink5Description: https://datasheet.ciiva.com/2456/pyu-r-int-thick-7-2456975.pdf?src-supplier=Digi-Key; ComponentLink6URL: https://datasheet.ciiva.com/16850/rc0805-16850409.pdf?src-supplier=Future+Electronics; ComponentLink6Description: https://datasheet.ciiva.com/16850/rc0805-16850409.pdf?src-supplier=Future+Electronics; Supplier Part Number 1: 311-1.00KCRCT-ND; Case Code (Imperial): 0805
footprint R0805
pins: 1, 2

## RC0805FR-072K32L
designator R?, comment 2K32  Tolerance: 1%  Case/Package: 0805
RES SMD 2K32 OHM 1% 1/8W 0805 ±100ppm/C Pad SMD T/R; Manufacturer: Yageo; Manufacturer Part Number: RC0805FR-072K32L; Resistance: 2.32kR; Temperature Coefficient: 100ppm/°C; Power Rating: 125mW; Voltage Rating: 150V; Supplier 1: Digi-Key; RoHS: Yes; Category: Chip SMD Resistors; Stock 1: 41013; Pricing 1: 1=0.10000, 10=0.03600, 100=0.01480, 1000=0.00666, 2500=0.00578 (USD); Contact Plating: Tin,Matte,Lead; Case Code (Metric): 2012; Case Code (Imperial): 0805; Size Code: 0805; Min Operating Temperature: -55°C; Max Operating Temperature: 155°C; Resistor Type: Thick Film; Package Quantity: 1; Packaging: Tape and Reel; Number of Terminations: 2; Termination: SMD/SMT; Max Power Dissipation: 125mW; Voltage Rating (DC): 150V; Features: Moisture Resistant; Series: RC; Construction: Rectangular; Length: 2mm; Width: 0.049inch; Height: 0.024inch; Depth: 1.25mm; Radiation Hardening: No; Military Standard: Not; Lead Free: Lead Free; RoHS Compliant: Yes; ComponentLink1URL: https://datasheet.ciiva.com/2519/pyu-r-int-thick-7-2519808.pdf?src-supplier=Digi-Key; ComponentLink1Description: https://datasheet.ciiva.com/2519/pyu-r-int-thick-7-2519808.pdf?src-supplier=Digi-Key; ComponentLink2URL: https://datasheet.ciiva.com/2519/pyu-r-int-thick-7-2519809.pdf?src-supplier=Digi-Key; ComponentLink2Description: https://datasheet.ciiva.com/2519/pyu-r-int-thick-7-2519809.pdf?src-supplier=Digi-Key; ComponentLink3URL: https://datasheet.ciiva.com/2519/pyu-r-int-thick-7-2519807.pdf?src-supplier=Digi-Key; ComponentLink3Description: https://datasheet.ciiva.com/2519/pyu-r-int-thick-7-2519807.pdf?src-supplier=Digi-Key; ComponentLink4URL: https://datasheet.ciiva.com/17423/rc0805-17423239.pdf?src-supplier=Future+Electronics; ComponentLink4Description: https://datasheet.ciiva.com/17423/rc0805-17423239.pdf?src-supplier=Future+Electronics; Supplier Part Number 1: 311-2.32KCRCT-ND
footprint R0805
pins: 1, 2

## RC0805FR-073K4L
designator R?, comment 3K4  Tolerance: 1%  Case/Package: 0805
RES SMD 3.4K OHM 1% 1/8W 0805 ±100ppm/C Pad SMD T/R; Manufacturer: Yageo; Manufacturer Part Number: RC0805FR-073K4L; Resistance: 3.4kR; Temperature Coefficient: 100ppm/°C; Power Rating: 125mW; Voltage Rating: 150V; Supplier 1: Digi-Key; RoHS: Yes; Category: Chip SMD Resistors; Stock 1: 85836; Pricing 1: 1=0.10000, 10=0.03600, 100=0.01480, 1000=0.00666, 2500=0.00578 (USD); Contact Plating: Tin,Matte; Case Code (Metric): 2012; Size Code: 0805; Min Operating Temperature: -55°C; Max Operating Temperature: 155°C; Resistor Type: Thick Film; Packaging: Tape and Reel; Package Quantity: 1; Number of Terminations: 2; Termination: SMD/SMT; Max Power Dissipation: 125mW; Voltage Rating (DC): 150V; Features: Moisture Resistant; Series: RC; Construction: Rectangular; Length: 2mm; Width: 0.049inch; Height: 0.024inch; Depth: 1.25mm; Radiation Hardening: No; Military Standard: Not; Lead Free: Lead Free; RoHS Compliant: Yes; ComponentLink1URL: https://datasheet.ciiva.com/2457/pyu-r-int-thick-7-2457588.pdf?src-supplier=Digi-Key; ComponentLink1Description: https://datasheet.ciiva.com/2457/pyu-r-int-thick-7-2457588.pdf?src-supplier=Digi-Key; ComponentLink2URL: https://datasheet.ciiva.com/2457/pyu-r-int-thick-7-2457589.pdf?src-supplier=Digi-Key; ComponentLink2Description: https://datasheet.ciiva.com/2457/pyu-r-int-thick-7-2457589.pdf?src-supplier=Digi-Key; ComponentLink3URL: https://datasheet.ciiva.com/2457/pyu-r-int-thick-7-2457587.pdf?src-supplier=Digi-Key; ComponentLink3Description: https://datasheet.ciiva.com/2457/pyu-r-int-thick-7-2457587.pdf?src-supplier=Digi-Key; ComponentLink4URL: https://datasheet.ciiva.com/16746/rc0805-16746890.pdf?src-supplier=Future+Electronics; ComponentLink4Description: https://datasheet.ciiva.com/16746/rc0805-16746890.pdf?src-supplier=Future+Electronics; Case Code (Imperial): 0805; Supplier Part Number 1: 311-3.40KCRCT-ND
footprint R0805
pins: 1, 2

## RC0805FR-073KL
designator R?, comment 3K  Tolerance: 1%  Case/Package: 0805
RES SMD 3K OHM 1% 1/8W 0805 Thick Film ±100ppm/C Pad SMD T/R; Manufacturer: Yageo; Manufacturer Part Number: RC0805FR-073KL; Resistance: 3kR; Temperature Coefficient: 100ppm/°C; Voltage Rating (DC): 150V; Power Rating: 125mW; Supplier 1: Digi-Key; RoHS: Yes; Category: Chip SMD Resistors; Stock 1: 518249; Pricing 1: 1=0.10000, 10=0.03600, 100=0.01480, 1000=0.00666, 2500=0.00578 (USD); Mount: Surface Mount; Case Code (Metric): 2012; Case Code (Imperial): 0805; Size Code: 0805; Min Operating Temperature: -55°C; Max Operating Temperature: 155°C; Resistor Type: Thick Film; Packaging: Tape and Reel; Package Quantity: 1; Voltage Rating: 150V; Number of Terminations: 2; Termination: SMD/SMT; Max Power Dissipation: 125mW; Features: Moisture Resistant; Series: RC; Construction: Rectangular; Length: 2mm; Width: 0.049inch; Height: 0.024inch; Depth: 1.25mm; Lead Free: Lead Free; Military Standard: Not; RoHS Compliant: Yes; ComponentLink1URL: https://datasheet.ciiva.com/2457/pyu-r-int-thick-7-2457135.pdf?src-supplier=Digi-Key; ComponentLink1Description: https://datasheet.ciiva.com/2457/pyu-r-int-thick-7-2457135.pdf?src-supplier=Digi-Key; ComponentLink2URL: https://datasheet.ciiva.com/2457/pyu-r-int-thick-7-2457136.pdf?src-supplier=Digi-Key; ComponentLink2Description: https://datasheet.ciiva.com/2457/pyu-r-int-thick-7-2457136.pdf?src-supplier=Digi-Key; ComponentLink3URL: https://datasheet.ciiva.com/2457/pyu-r-int-thick-7-2457134.pdf?src-supplier=Digi-Key; ComponentLink3Description: https://datasheet.ciiva.com/2457/pyu-r-int-thick-7-2457134.pdf?src-supplier=Digi-Key; ComponentLink4URL: https://datasheet.ciiva.com/5558/rc0805-5558124.pdf?src-supplier=Mouser; ComponentLink4Description: https://datasheet.ciiva.com/5558/rc0805-5558124.pdf?src-supplier=Mouser; ComponentLink5URL: https://datasheet.ciiva.com/17043/rc0805-17043750.pdf?src-supplier=Future+Electronics; ComponentLink5Description: https://datasheet.ciiva.com/17043/rc0805-17043750.pdf?src-supplier=Future+Electronics; Supplier Part Number 1: 311-3.00KCRCT-ND
footprint R0805
pins: 1, 2

## RC0805FR-074K02L
designator R?, comment 4K02  Tolerance: 1%  Case/Package: 0805
RES SMD 4K02 OHM 1% 1/8W 0805 Thick Film 2.0 x 1.2 mm 100ppm/ C Molded SMD Paper T/R; Manufacturer: Yageo; Manufacturer Part Number: RC0805FR-074K02L; Power Rating: 125mW; Resistance: 4.02kR; Voltage Rating: 150V; Temperature Coefficient: 100ppm/°C; Supplier 1: Digi-Key; RoHS: Yes; Category: Chip SMD Resistors; Stock 1: 404687; Pricing 1: 1=0.10000, 10=0.03600, 100=0.01480, 1000=0.00666, 2500=0.00578 (USD); Mount: Surface Mount; Case Code (Imperial): 0805; Case Code (Metric): 2012; Size Code: 0805; Min Operating Temperature: -55°C; Max Operating Temperature: 155°C; Packaging: Tape and Reel; Termination: SMD/SMT; Resistor Type: Thick Film; Voltage Rating (DC): 150V; Features: Moisture Resistant; Series: RC; Max Power Dissipation: 125mW; Number of Terminations: 2; Technology: THICK FILM; Construction: Rectangular; Length: 2mm; Height: 0.5mm; Depth: 1.25mm; Military Standard: Not; Lead Free: Lead Free; RoHS Compliant: Yes; ComponentLink1URL: https://datasheet.ciiva.com/11808/0900766b8106beab-11808579.pdf?src-supplier=RSComponents; ComponentLink1Description: https://datasheet.ciiva.com/11808/0900766b8106beab-11808579.pdf?src-supplier=RSComponents; ComponentLink2URL: https://datasheet.ciiva.com/12667/rc0805-12667015.pdf?src-supplier=Mouser; ComponentLink2Description: https://datasheet.ciiva.com/12667/rc0805-12667015.pdf?src-supplier=Mouser; ComponentLink3URL: https://datasheet.ciiva.com/15189/getdatasheetpartid-342839-15189978.pdf?src-supplier=Verical; ComponentLink3Description: https://datasheet.ciiva.com/15189/getdatasheetpartid-342839-15189978.pdf?src-supplier=Verical; ComponentLink4URL: https://datasheet.ciiva.com/16771/rc0805-16771996.pdf?src-supplier=Future+Electronics; ComponentLink4Description: https://datasheet.ciiva.com/16771/rc0805-16771996.pdf?src-supplier=Future+Electronics; Supplier Part Number 1: 311-4.02KCRCT-ND
footprint R0805
pins: 1, 2

## RC0805FR-077K15L
designator R?, comment 7K15  Tolerance: 1%  Case/Package: 0805
RES SMD 7K15 OHM 1% 1/8W 0805 Thick Film 2.0 x 1.2 mm 100ppm/ C Molded SMD Paper T/R; Manufacturer: Yageo; Manufacturer Part Number: RC0805FR-077K15L; Resistance: 7.15kR; Temperature Coefficient: 100ppm/°C; Power Rating: 125mW; Voltage Rating: 150V; Supplier 1: Digi-Key; RoHS: Yes; Category: Chip SMD Resistors; Stock 1: 115604; Pricing 1: 1=0.10000, 10=0.03600, 100=0.01480, 1000=0.00666, 2500=0.00578 (USD); Contact Plating: Tin,Matte,Lead; Case Code (Metric): 2012; Weight: 0.000194oz; Size Code: 0805; Min Operating Temperature: -55°C; Max Operating Temperature: 155°C; Resistor Type: Thick Film; Packaging: Tape and Reel; Package Quantity: 1; Termination: SMD/SMT; Number of Terminations: 2; Max Power Dissipation: 125mW; Voltage Rating (DC): 150V; Features: Moisture Resistant; Series: RC; Construction: Rectangular; Length: 2mm; Width: 1.25mm; Height: 0.024inch; Depth: 1.25mm; Radiation Hardening: No; Military Standard: Not; Lead Free: Lead Free; RoHS Compliant: Yes; ComponentLink1URL: https://datasheet.ciiva.com/2509/pyu-r-int-thick-7-2509532.pdf?src-supplier=Digi-Key; ComponentLink1Description: https://datasheet.ciiva.com/2509/pyu-r-int-thick-7-2509532.pdf?src-supplier=Digi-Key; ComponentLink2URL: https://datasheet.ciiva.com/2509/pyu-r-int-thick-7-2509533.pdf?src-supplier=Digi-Key; ComponentLink2Description: https://datasheet.ciiva.com/2509/pyu-r-int-thick-7-2509533.pdf?src-supplier=Digi-Key; ComponentLink3URL: https://datasheet.ciiva.com/2509/pyu-r-int-thick-7-2509531.pdf?src-supplier=Digi-Key; ComponentLink3Description: https://datasheet.ciiva.com/2509/pyu-r-int-thick-7-2509531.pdf?src-supplier=Digi-Key; ComponentLink4URL: https://datasheet.ciiva.com/5561/rc0805-5561850.pdf?src-supplier=Mouser; ComponentLink4Description: https://datasheet.ciiva.com/5561/rc0805-5561850.pdf?src-supplier=Mouser; ComponentLink5URL: https://datasheet.ciiva.com/17053/rc0805-17053637.pdf?src-supplier=Future+Electronics; ComponentLink5Description: https://datasheet.ciiva.com/17053/rc0805-17053637.pdf?src-supplier=Future+Electronics; Supplier Part Number 1: 311-7.15KCRCT-ND; Case Code (Imperial): 0805
footprint R0805
pins: 1, 2

## RC0805FR-0710KL
designator R?, comment 10K  Tolerance: 1%  Case/Package: 0805
RES SMD 10K OHM 1% 1/8W  0805 Thick Film+/-100ppm/C Epoxy Pad SMD T/R; Manufacturer: Yageo; Manufacturer Part Number: RC0805FR-0710KL; Resistance: 10kR; Power Rating: 125mW; Voltage Rating: 150V; Temperature Coefficient: 100ppm/°C; Supplier 1: Digi-Key; RoHS: Yes; Category: Chip SMD Resistors; Stock 1: 11341268; Pricing 1: 1=0.10000, 10=0.03700, 100=0.01490, 1000=0.00669, 2500=0.00581 (USD); Case Code (Imperial): 0805; Case Code (Metric): 2012; Size Code: 0805; Min Operating Temperature: -55°C; Max Operating Temperature: 155°C; Packaging: Tape and Reel; Package Quantity: 1; Termination: SMD/SMT; Resistor Type: Thick Film; Number of Terminations: 2; Max Power Dissipation: 125mW; Features: Moisture Resistant; Series: RC; Construction: Rectangular; Resistance Tolerance: 1%; Technology: THICK FILM; Length: 0.079inch; Width: 0.049inch; Height: 0.024inch; Depth: 1.25mm; Military Standard: Not; Lead Free: Lead Free; RoHS Compliant: Yes; ComponentLink1URL: https://datasheet.ciiva.com/11808/0900766b8106beab-11808151.pdf?src-supplier=RSComponents; ComponentLink1Description: https://datasheet.ciiva.com/11808/0900766b8106beab-11808151.pdf?src-supplier=RSComponents; ComponentLink2URL: https://datasheet.ciiva.com/46447/444164-46447563.pdf?src-supplier=Element14; ComponentLink2Description: https://datasheet.ciiva.com/46447/444164-46447563.pdf?src-supplier=Element14; ComponentLink3URL: https://datasheet.ciiva.com/2456/pyu-r-int-thick-7-2456973.pdf?src-supplier=Digi-Key; ComponentLink3Description: https://datasheet.ciiva.com/2456/pyu-r-int-thick-7-2456973.pdf?src-supplier=Digi-Key; ComponentLink4URL: https://datasheet.ciiva.com/2456/pyu-r-int-thick-7-2456974.pdf?src-supplier=Digi-Key; ComponentLink4Description: https://datasheet.ciiva.com/2456/pyu-r-int-thick-7-2456974.pdf?src-supplier=Digi-Key; ComponentLink5URL: https://datasheet.ciiva.com/2456/pyu-r-int-thick-7-2456972.pdf?src-supplier=Digi-Key; ComponentLink5Description: https://datasheet.ciiva.com/2456/pyu-r-int-thick-7-2456972.pdf?src-supplier=Digi-Key; ComponentLink6URL: https://datasheet.ciiva.com/12669/rc0805-12669688.pdf?src-supplier=Mouser; ComponentLink6Description: https://datasheet.ciiva.com/12669/rc0805-12669688.pdf?src-supplier=Mouser; ComponentLink7URL: https://datasheet.ciiva.com/16747/rc0805-16747087.pdf?src-supplier=Future+Electronics; ComponentLink7Description: https://datasheet.ciiva.com/16747/rc0805-16747087.pdf?src-supplier=Future+Electronics; Supplier Part Number 1: 311-10.0KCRCT-ND
footprint R0805
pins: 1, 2

## RC0805FR-0752K3L
designator R?, comment 52K3  Case/Package: 0805  Tolerance: 1%
RES SMD 52K3 OHM 1% 1/8W 0805 ±100ppm/°C SMD Paper T/R; Manufacturer: Yageo; Manufacturer Part Number: RC0805FR-0752K3L; Resistance: 52.3kR; Power Rating: 125mW; Voltage Rating: 150V; Supplier 1: Digi-Key; RoHS: Yes; Category: Chip SMD Resistors; Stock 1: 66100; Pricing 1: 1=0.10000, 10=0.03600, 100=0.01480, 1000=0.00666, 2500=0.00578 (USD); Contact Plating: Tin,Lead,Matte; Case Code (Imperial): 0805; Case Code (Metric): 2012; Size Code: 0805; Min Operating Temperature: -55°C; Max Operating Temperature: 155°C; Resistor Type: Thick Film; Temperature Coefficient: 100ppm/°C; Packaging: Tape and Reel; Package Quantity: 1; Termination: SMD/SMT; Number of Terminations: 2; Max Power Dissipation: 125mW; Voltage Rating (DC): 150V; Features: Moisture Resistant; Series: RC; Construction: Rectangular; Length: 2mm; Width: 1.25mm; Height: 0.024inch; Depth: 1.25mm; Radiation Hardening: No; Military Standard: Not; Lead Free: Lead Free; RoHS Compliant: Yes; ComponentLink1URL: https://datasheet.ciiva.com/2457/pyu-r-int-thick-7-2457498.pdf?src-supplier=Digi-Key; ComponentLink1Description: https://datasheet.ciiva.com/2457/pyu-r-int-thick-7-2457498.pdf?src-supplier=Digi-Key; ComponentLink2URL: https://datasheet.ciiva.com/2457/pyu-r-int-thick-7-2457499.pdf?src-supplier=Digi-Key; ComponentLink2Description: https://datasheet.ciiva.com/2457/pyu-r-int-thick-7-2457499.pdf?src-supplier=Digi-Key; ComponentLink3URL: https://datasheet.ciiva.com/2457/pyu-r-int-thick-7-2457497.pdf?src-supplier=Digi-Key; ComponentLink3Description: https://datasheet.ciiva.com/2457/pyu-r-int-thick-7-2457497.pdf?src-supplier=Digi-Key; Supplier Part Number 1: 311-52.3KCRCT-ND
footprint R0805
pins: 1, 2

## RC0805FR-07200RL
designator R?, comment 200R  Tolerance: 1%  Case/Package: 0805
RES SMD 200 OHM 1% 1/8W 0805 ±100ppm/°C; Manufacturer: Yageo; Manufacturer Part Number: RC0805FR-07200RL; Voltage Rating (DC): 150V; Power Rating: 125mW; Supplier 1: Digi-Key; RoHS: Yes; Category: Chip SMD Resistors; Stock 1: 939589; Pricing 1: 1=0.10000, 10=0.03600, 100=0.01480, 1000=0.00666, 2500=0.00578 (USD); Mount: Surface Mount; Case Code (Metric): 2012; Case Code (Imperial): 0805; Size Code: 0805; Min Operating Temperature: -55°C; Max Operating Temperature: 155°C; Resistance: 200R; Packaging: Tape and Reel; Resistor Type: Thick Film; Temperature Coefficient: 100ppm/°C; Package Quantity: 1; Voltage Rating: 150V; Number of Terminations: 2; Termination: SMD/SMT; Max Power Dissipation: 125mW; Features: Moisture Resistant; Series: RC; Construction: Rectangular; Length: 2mm; Width: 0.049inch; Height: 0.024inch; Depth: 1.25mm; Lead Free: Lead Free; Military Standard: Not; RoHS Compliant: Yes; ComponentLink1URL: https://datasheet.ciiva.com/2519/pyu-r-int-thick-7-2519721.pdf?src-supplier=Digi-Key; ComponentLink1Description: https://datasheet.ciiva.com/2519/pyu-r-int-thick-7-2519721.pdf?src-supplier=Digi-Key; ComponentLink2URL: https://datasheet.ciiva.com/2519/pyu-r-int-thick-7-2519722.pdf?src-supplier=Digi-Key; ComponentLink2Description: https://datasheet.ciiva.com/2519/pyu-r-int-thick-7-2519722.pdf?src-supplier=Digi-Key; ComponentLink3URL: https://datasheet.ciiva.com/2519/pyu-r-int-thick-7-2519720.pdf?src-supplier=Digi-Key; ComponentLink3Description: https://datasheet.ciiva.com/2519/pyu-r-int-thick-7-2519720.pdf?src-supplier=Digi-Key; ComponentLink4URL: https://datasheet.ciiva.com/12667/rc0805-12667066.pdf?src-supplier=Mouser; ComponentLink4Description: https://datasheet.ciiva.com/12667/rc0805-12667066.pdf?src-supplier=Mouser; ComponentLink5URL: https://datasheet.ciiva.com/15189/getdatasheetpartid-327982-15189926.pdf?src-supplier=Verical; ComponentLink5Description: https://datasheet.ciiva.com/15189/getdatasheetpartid-327982-15189926.pdf?src-supplier=Verical; Supplier Part Number 1: 311-200CRCT-ND
footprint R0805
pins: 1, 2